# Altium footprint library LC-DIP-14.PcbLib: 1 footprints
Each footprint in its own frame and in the unit in brackets; x right, y up, seen from the top. Pads: shape width x height; smd on the part's side, far side on the other; paste and mask are expansions set on the pad; w line width, h text height; cw(c..) or ccw(c..) is an arc to the next point about the centre after c.
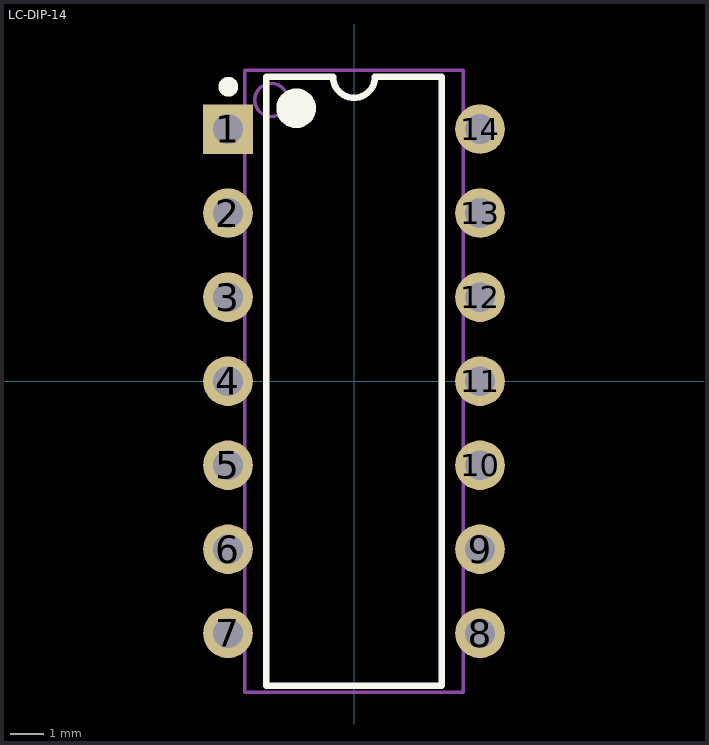
[diagram p0: the footprint, top view; thin cyan lines are the x and y axes]

## LC-DIP-14 [mm]
pads (14):
  rect 1.5x1.5 hole 0.9: 1(-3.81,7.62)
  round 1.5 hole 0.9: 2(-3.81,5.08) 3(-3.81,2.54) 4(-3.81,0) 5(-3.81,-2.54) 6(-3.81,-5.08) 7(-3.81,-7.62) 8(3.81,-7.62) 9(3.81,-5.08) 10(3.81,-2.54) 11(3.81,0) 12(3.81,2.54) 13(3.81,5.08) 14(3.81,7.62)
Top Overlay:
  circle w0.3: c-3.8,8.9 r0.15
  circle w0.6: c-1.75,8.25 r0.3
  lines w0.2: -2.65,-9.2 -2.65,9.2 -0.635,9.2 ccw(c0,9.2) 0.635,9.2 2.65,9.2 2.65,-9.2 -2.65,-9.2
Mechanical 13:
  circle w0.1: c-2.5,8.5 r0.5
  lines w0.1: -3.3,-9.4 3.3,-9.4 3.3,9.4 -3.3,9.4 -3.3,-9.4